# Altium footprint library USB_B_micro_2.PcbLib: 1 footprints
Each footprint in its own frame and in the unit in brackets; x right, y up, seen from the top. Pads: shape width x height; smd on the part's side, far side on the other; paste and mask are expansions set on the pad; w line width, h text height; cw(c..) or ccw(c..) is an arc to the next point about the centre after c.
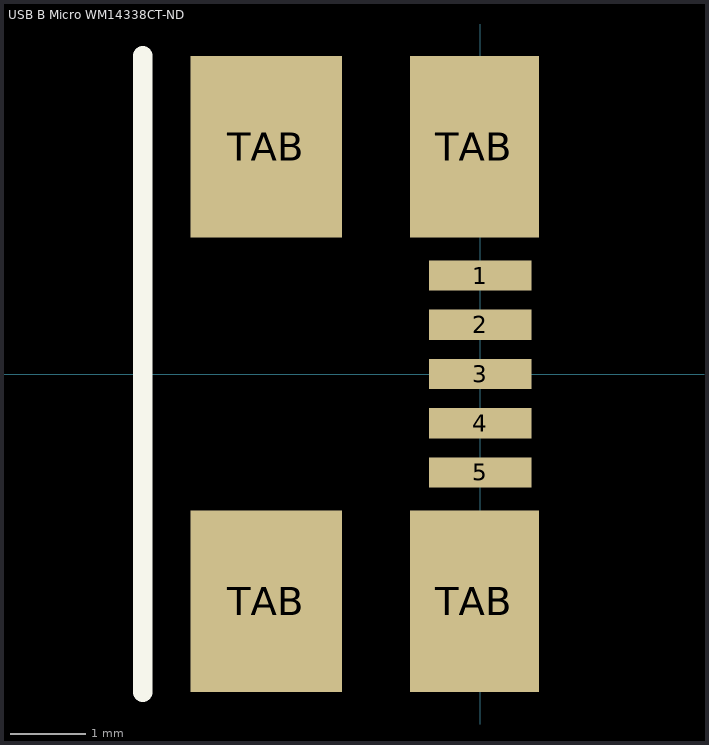
[diagram p0: the footprint, top view; thin cyan lines are the x and y axes]

## USB B Micro WM14338CT-ND [mm] "MOLEX Micro USB Connector WM14338CT-ND"
height 3.33
pads (9):
  rect 1.35x0.4 smd: 1(0,1.3) 2(0,0.65) 3(0,0) 4(0,-0.65) 5(0,-1.3)
  rect 2x2.4 smd: TAB(-2.825,-3) TAB(-2.825,3)
  rect 1.7x2.4 smd: TAB(-0.075,-3) TAB(-0.075,3)
Top Overlay:
  lines w0.254: -4.455,-4.2 -4.455,4.2
3D body: height 2.77, standoff -0.17, extent -5.38,-3.99 0.05,3.99